# Altium footprint library PCB - POWER INDUCTORS - WURTH WE-ACHC 7449150079.PcbLib: 1 footprints
Each footprint in its own frame and in the unit in brackets; x right, y up, seen from the top. Pads: shape width x height; smd on the part's side, far side on the other; paste and mask are expansions set on the pad; w line width, h text height; cw(c..) or ccw(c..) is an arc to the next point about the centre after c.
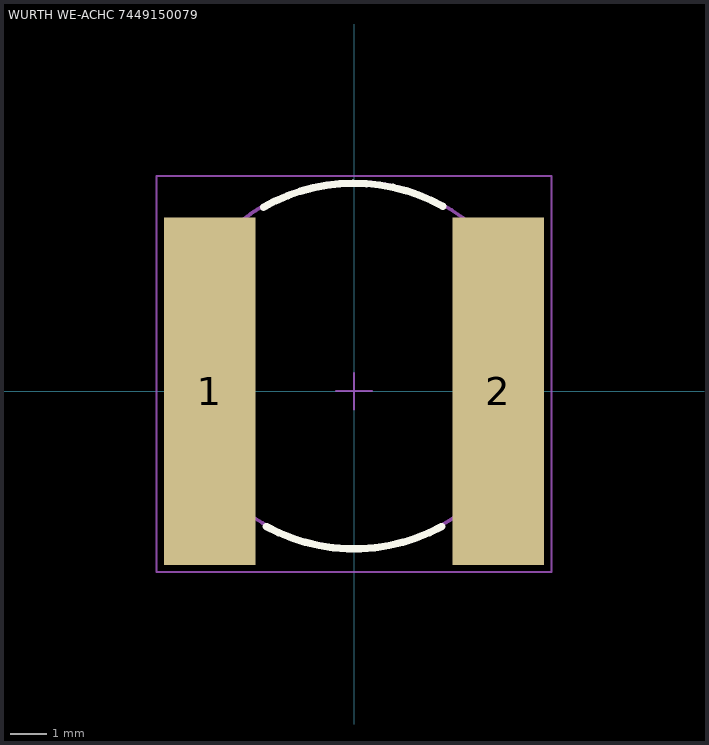
[diagram p0: the footprint, top view; thin cyan lines are the x and y axes]

## WURTH WE-ACHC 7449150079 [mm] "Air Coil High Current Inductor, size 1010"
height 5.8
pads (2):
  rect 2.5x9.5 smd: 1(-3.95,0) 2(3.95,0)
Top Overlay:
  lines w0.2: -2.474,5.03 cw(c0,0.685) 2.43,5.055 ; -2.401,-3.701 ccw(c0,0.685) 2.401,-3.701
Top 3D Body:
  circle w0.1: c0,0.725 r5
  lines w0.1: -3.525,4.275 -5,4.275 -5,-4.275 -3.2,-4.275 -3.2,-3.15 ; 3.2,-3.15 3.2,-4.275 5,-4.275 5,4.275 3.525,4.275
Top Component Outline:
  circle w0.1: c0,0.725 r5
  lines w0.1: -3.525,4.275 -5,4.275 -5,-4.275 -3.2,-4.275 -3.2,-3.15 ; 3.2,-3.15 3.2,-4.275 5,-4.275 5,4.275 3.525,4.275
Top Courtyard:
  lines w0.05: -0.5,0 0.5,0 ; 0,-0.5 0,0.5 ; -5.4,-4.95 -5.4,5.885 5.4,5.885 5.4,-4.95 -5.4,-4.95
3D body "7449150079.stp": height 5.89, standoff 0.05, extent -5,-4.275 5,5.725